# EAGLE library part LTC4156 (library NerduinoShieldLib)
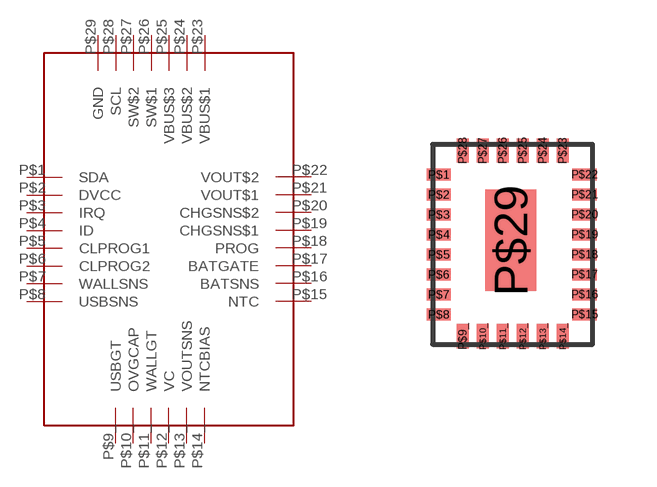
[diagram p6: symbol with the pads of QFN28; footprint QFN28]

Designator prefix -

## LTC4156  [QFN28]
P$1  SDA
P$2  DVCC
P$3  IRQ
P$4  ID
P$5  CLPROG1
P$6  CLPROG2
P$7  WALLSNS
P$8  USBSNS
P$9_  USBGT
P$10_  OVGCAP
P$11_  WALLGT
P$12_  VC
P$13_  VOUTSNS
P$14_  NTCBIAS
P$15  NTC
P$16  BATSNS
P$17  BATGATE
P$18  PROG
P$19  CHGSNS$1
P$20  CHGSNS$2
P$21  VOUT$1
P$22  VOUT$2
P$23  VBUS$1
P$24  VBUS$2
P$25  VBUS$3
P$26  SW$1
P$27  SW$2
P$28  SCL
P$29  GND

## Footprint QFN28 (pad centres in mm)
smd 0.61 x 0.305: P$1 0.15,4.25; P$2 0.15,3.75; P$3 0.15,3.25; P$4 0.15,2.75; P$5 0.15,2.25; P$6 0.15,1.75; P$7 0.15,1.25; P$8 0.15,0.75; P$15 3.8,0.75; P$16 3.8,1.25; P$17 3.8,1.75; P$18 3.8,2.25; P$19 3.8,2.75; P$20 3.8,3.25; P$21 3.8,3.75; P$22 3.8,4.25
smd 0.305 x 0.61: P$9_ 0.75,0.2; P$10_ 1.25,0.2; P$11_ 1.75,0.2; P$12_ 2.25,0.2; P$13_ 2.75,0.2; P$14_ 3.25,0.2; P$23 3.25,4.85; P$24 2.75,4.85; P$25 2.25,4.85; P$26 1.75,4.85; P$27 1.25,4.85; P$28 0.75,4.85
smd 1.27 x 2.54: P$29 1.95,2.6